# EAGLE library part 2480803-1 (library 2480803-1)
USB Connectors USB-C Charge Only Receptacle,6 Pin, Vertical, Short, 3u GF Source: Datasheet <https://www.te.com/de/product-2480803-1.datasheet.pdf>
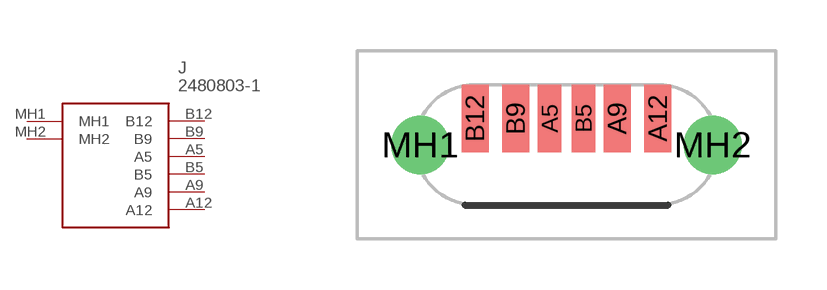
[diagram p0: symbol with the pads of 24808031; footprint 24808031]

Designator prefix J

## 2480803-1 (Description: USB Connectors USB-C Charge Only Receptacle,6 Pin, Vertical, Short, 3u GF; Height: 6.5mm; Manufacturer_Name: TE Connectivity; Manufacturer_Part_Number: 2480803-1; Mouser_Part_Number: 571-2480803-1; Mouser_Price-Stock: https://www.mouser.co.uk/ProductDetail/TE-Connectivity/2480803-1?qs=dbcCsuKDzFUIALFiru2Iew%3D%3D)  [24808031]
A5  A5
A9  A9
A12  A12
B5  B5
B9  B9
B12  B12
MH1  MH1
MH2  MH2

## Footprint 24808031 (pad centres in mm)
2480803-1
smd 0.7 x 2: A5 -0.5,0.78; B5 0.5,0.78
smd 0.8 x 2: A9 1.5,0.78; A12 2.7,0.78; B9 -1.5,0.78; B12 -2.7,0.78
drill 1.15 pad 1.725: MH1 -4.32,0; MH2 4.32,0